# EAGLE library part MRF49XA (library microchip2)
Microchip MRF49XA
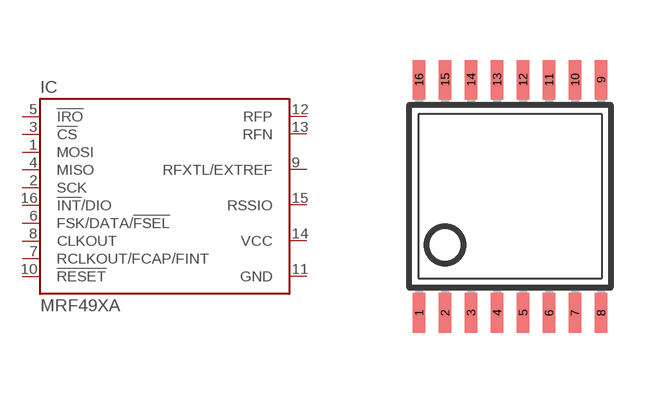
[diagram p162: symbol with the pads of TSSOP16; footprint TSSOP16]

Designator prefix IC

## MRF49XA  [TSSOP16]
1  MOSI  in
2  SCK  in
3  !CS  in
4  MISO  out
5  !IRO
6  FSK/DATA/!FSEL
7  RCLKOUT/FCAP/FINT
8  CLKOUT  out
9  RFXTL/EXTREF
10  !RESET
11  GND  pwr
12  RFP
13  RFN
14  VCC  pwr
15  RSSIO
16  !INT!/DIO

## Footprint TSSOP16 (pad centres in mm)
Thin Shrink Small Outline Plastic 16
smd 0.305 x 0.991: 1 -2.275,-2.918; 2 -1.625,-2.918; 3 -0.975,-2.918; 4 -0.325,-2.918; 5 0.325,-2.918; 6 0.975,-2.918; 7 1.625,-2.918; 8 2.275,-2.918; 9 2.275,2.918; 10 1.625,2.918; 11 0.975,2.918; 12 0.325,2.918; 13 -0.325,2.918; 14 -0.975,2.918; 15 -1.625,2.918; 16 -2.275,2.918